# EAGLE library part MS5611-01BA03 (library measurement-specialties)
Barometric Pressure Sensor, with stainless steel cap Source: http://www.meas-spec.com/downloads/MS5611-01BA03.pdf
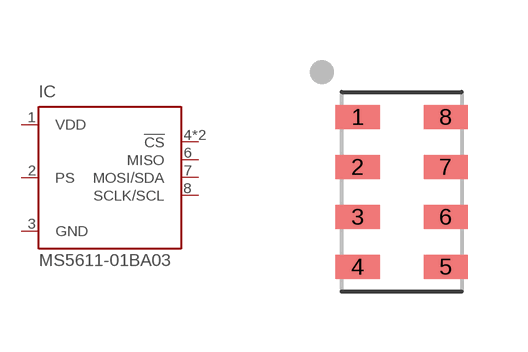
[diagram p0: symbol with the pads of LGA8; footprint LGA8]

Designator prefix IC

## MS5611-01BA03  [LGA8]
1  VDD  pwr
2  PS  in
3  GND  pwr
4  !CS!  in
5  !CS!  in
6  MISO  out
7  MOSI/SDA
8  SCLK/SCL  in

## Footprint LGA8 (pad centres in mm)
smd 1.1 x 0.6: 1 -1.1,1.875; 2 -1.1,0.625; 3 -1.1,-0.625; 4 -1.1,-1.875; 5 1.1,-1.875; 6 1.1,-0.625; 7 1.1,0.625; 8 1.1,1.875